# Altium footprint library LTR-91400.PcbLib: 1 footprints
Each footprint in its own frame and in the unit in brackets; x right, y up, seen from the top. Pads: shape width x height; smd on the part's side, far side on the other; paste and mask are expansions set on the pad; w line width, h text height; cw(c..) or ccw(c..) is an arc to the next point about the centre after c.
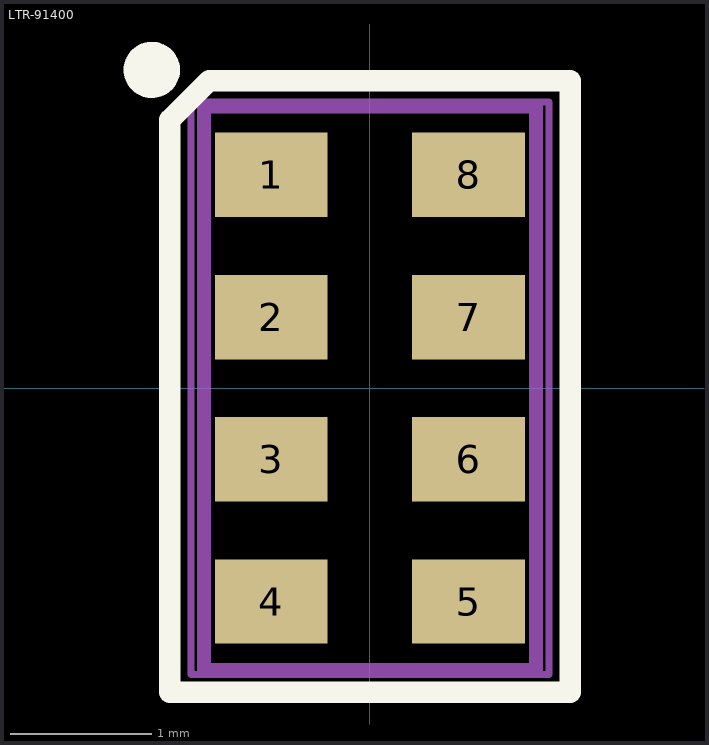
[diagram p0: the footprint, top view; thin cyan lines are the x and y axes]

## LTR-91400 [mm] "LTR-91400 LXW 3.94mmX2.36mm"
height 1.35
pads (8):
  rect 0.8x0.6 smd: 1(-0.7,1.515) 2(-0.7,0.505) 3(-0.7,-0.505) 4(-0.7,-1.515) 5(0.7,-1.515) 6(0.7,-0.505) 7(0.7,0.505) 8(0.7,1.515)
Top Overlay:
  circle w0.2: c-1.549,2.261 r0.1
  lines w0.152: -1.422,-2.159 1.422,-2.159 1.422,2.184 -1.143,2.184 -1.422,1.905 -1.422,-2.159
Mechanical 13:
  lines w0.1: -1.18,-2 -1.18,2 1.18,2 1.18,-2 -1.18,-2
Mechanical 15:
  lines w0.05: -1.27,-2.032 1.27,-2.032 1.27,2.032 -1.27,2.032 -1.27,-2.032
3D body: height 1.34, standoff -0.01, extent -1.18,-1.97 1.18,1.97